# Altium footprint library PcbLib1.PcbLib: 5 footprints
Each footprint in its own frame and in the unit in brackets; x right, y up, seen from the top. Pads: shape width x height; smd on the part's side, far side on the other; paste and mask are expansions set on the pad; w line width, h text height; cw(c..) or ccw(c..) is an arc to the next point about the centre after c.
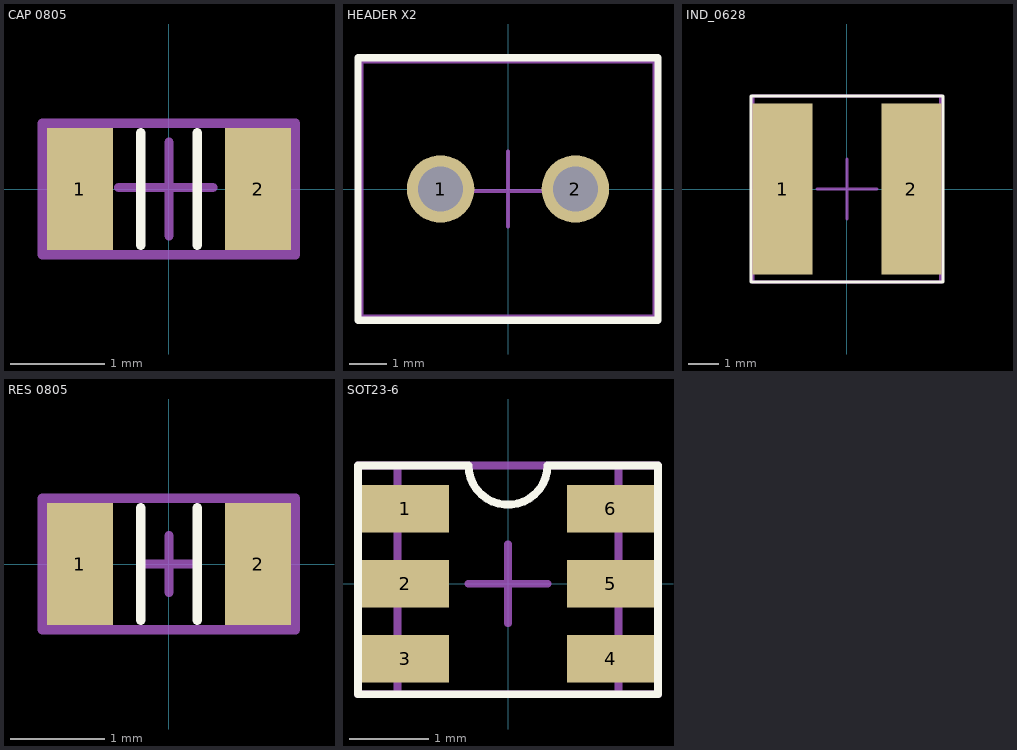
[diagram p0: the footprints below, top view; thin cyan lines are the x and y axes]

## CAP 0805 [mm]
pads (2):
  rect 0.7x1.3 smd mask+0.05: 1(-0.95,0) 2(0.95,0)
Top Overlay:
  lines w0.1: -0.3,-0.6 -0.3,0.6 ; 0.3,-0.6 0.3,0.6
Top Component Center:
  lines w0.1: -0.534,0.016 0.466,0.016 ; 0,-0.5 0,0.5 ; -1.35,-0.7 -1.35,0.7 1.35,0.7 1.35,-0.7 -1.35,-0.7
Top Designator (Mech5):
  lines w0.1: -1.35,-0.7 -1.35,0.7 1.35,0.7 1.35,-0.7 -1.35,-0.7
  text "'.Designator'" at -1.6,-0.7 h0.7
3D body "CAPC0805 v2.step": height 1, standoff 0, extent -1,-0.6 1,0.6

## HEADER X2 [mm]
pads (2):
  round 1.8 hole 1.2 mask+0.05: 1(-1.8,0) 2(1.8,0)
Top Overlay:
  lines w0.2: -4,-3.5 4,-3.5 4,3.5 -4,3.5 -4,-3.5
Mechanical 1:
  lines w0.1: -3.9,-3.4 3.9,-3.4 3.9,3.4 -3.9,3.4 -3.9,-3.4
Top Component Center:
  lines w0.1: -0.983,-0.051 1.017,-0.051 ; 0,-1 0,1 ; -3.9,-3.4 -3.9,3.4 3.9,3.4 3.9,-3.4 -3.9,-3.4
Top Designator (Mech5):
  lines w0.1: -3.9,-3.4 3.9,-3.4 3.9,3.4 -3.9,3.4 -3.9,-3.4
  text "'.Designator'" at -2.9,-0.9 h1
3D body "2445P Screw Terminal Block- 2 Pin, 3.5mm Pitch, Side Entry.STEP": height 8.41, standoff -3.48, extent -3.9,-3.4 3.9,3.4

## IND_0628 [mm]
pads (2):
  rect 2x5.7 smd mask+0.05: 1(-2.15,0) 2(2.15,0)
Top Overlay:
  lines w0.1: -3.2,-3.1 3.2,-3.1 3.2,3.1 -3.2,3.1 -3.2,-3.1
Mechanical 1:
  lines w0.1: -3.125,-3.1 3.125,-3.1 3.125,3.1 -3.125,3.1 -3.125,-3.1
Top Component Center:
  lines w0.1: -1,0 1,0 ; 0,-1 0,1 ; -3.15,-3.1 3.15,-3.1 3.15,3.1 -3.15,3.1 -3.15,-3.1
Top Designator (Mech5):
  lines w0.1: -3.15,-3.1 3.125,-3.1 3.125,3.1 -3.15,3.1 -3.15,-3.1
  text "'.Designator'" at -1.2,-0.5 h0.5
3D body "ASPI-0628_ASPI-0628-4R7M-T1_ABR.step": height 2.8, standoff 0, extent -3.099,-3.099 3.099,3.099

## RES 0805 [mm]
pads (2):
  rect 0.7x1.3 smd mask+0.05: 1(-0.95,0) 2(0.95,0)
Top Overlay:
  lines w0.1: -0.3,-0.6 -0.3,0.6 ; 0.3,-0.6 0.3,0.6
Top Component Center:
  lines w0.1: -0.3,0 0.3,0 ; 0,-0.3 0,0.3 ; -1.35,-0.7 1.35,-0.7 1.35,0.7 -1.35,0.7 -1.35,-0.7
Top Designator (Mech5):
  lines w0.1: -1.35,-0.7 1.35,-0.7 1.35,0.7 -1.35,0.7 -1.35,-0.7
  text "'.Designator'" at -1.6,-0.7 h0.7
3D body "CircuitWorks-RESISTOR 0805.step": height 0.44, standoff -0.02, extent -1,-0.63 1,0.63

## SOT23-6 [mm]
pads (6):
  rect 1.1x0.6 smd mask+0.05: 1(-1.3,0.95) 2(-1.3,0) 3(-1.3,-0.95) 4(1.3,-0.95) 5(1.3,0) 6(1.3,0.95)
Top Overlay:
  lines w0.1: -1.9,-1.4 -1.9,1.5 -0.5,1.5 ccw(c0,1.5) 0.5,1.5 1.9,1.5 1.9,-1.4 -1.9,-1.4
Mechanical 1:
  lines w0.1: -1.4,-1.4 1.4,-1.4 1.4,1.5 -1.4,1.5 -1.4,-1.4
Top Component Center:
  lines w0.1: -0.5,0 0.5,0 ; 0,-0.5 0,0.5 ; -1.9,-1.4 1.9,-1.4 1.9,1.5 -1.9,1.5 -1.9,-1.4
Top Designator (Mech5):
  lines w0.1: -1.9,-1.4 -1.9,1.5 1.9,1.5 1.9,-1.4 -1.9,-1.4
  text "'.Designator'" at -1.2,-0.5 h0.5
3D body "DBV0006A.stp": height 1.2, standoff 0, extent -1.4,-1.45 1.4,1.45